# Altium footprint library LED.PcbLib: 1 footprints
Each footprint in its own frame and in the unit in brackets; x right, y up, seen from the top. Pads: shape width x height; smd on the part's side, far side on the other; paste and mask are expansions set on the pad; w line width, h text height; cw(c..) or ccw(c..) is an arc to the next point about the centre after c.
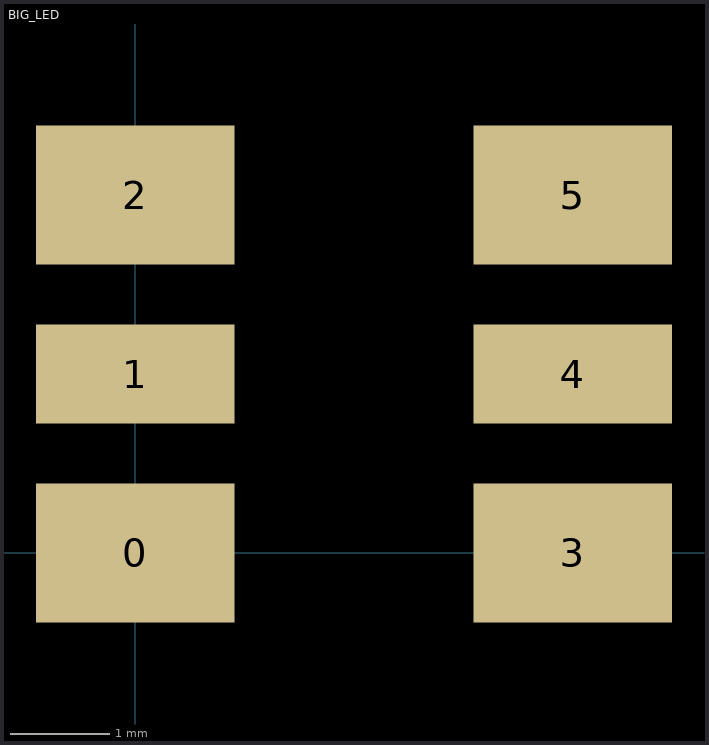
[diagram p0: the footprint, top view; thin cyan lines are the x and y axes]

## BIG_LED [mm] "SMT RGB LED 6 PIN"
pads (6):
  rect 2x1.4 smd: 0(0,0) 2(0,3.6) 3(4.4,0) 5(4.4,3.6)
  rect 2x1 smd: 1(0,1.8) 4(4.4,1.8)